# Altium footprint library PcbLib1.PcbLib: 3 footprints
Each footprint in its own frame and in the unit in brackets; x right, y up, seen from the top. Pads: shape width x height; smd on the part's side, far side on the other; paste and mask are expansions set on the pad; w line width, h text height; cw(c..) or ccw(c..) is an arc to the next point about the centre after c.
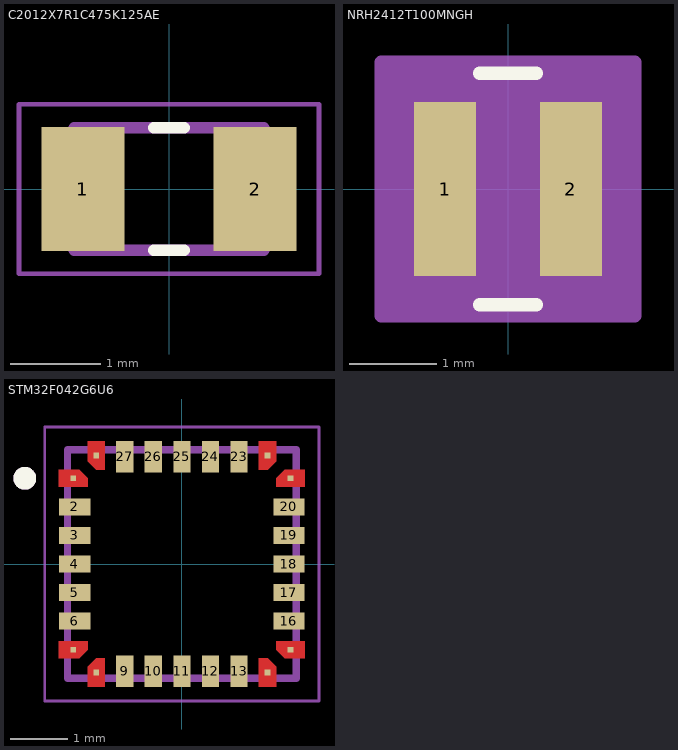
[diagram p0: the footprints below, top view; thin cyan lines are the x and y axes]

## C2012X7R1C475K125AE [mm]
pads (2):
  rect 0.92x1.38 smd: 1(-0.955,0) 2(0.955,0)
Top Overlay:
  lines w0.127: -0.17,-0.68 0.17,-0.68 ; -0.17,0.68 0.17,0.68
Mechanical 13:
  lines w0.127: -1.05,-0.68 -1.05,0.68 1.05,0.68 1.05,-0.68 -1.05,-0.68
Mechanical 15:
  lines w0.05: -1.665,-0.94 -1.665,0.94 1.665,0.94 1.665,-0.94 -1.665,-0.94

## NRH2412T100MNGH [mil]
pads (2):
  rect 28x79 smd paste+0 mask+0: 1(-28.54,0) 2(28.54,0)
Top Overlay:
  lines w6: -12.93,-52.5 12.93,-52.5 ; -12.93,52.5 12.93,52.5
Mechanical 13:
  lines w1: -47.5,-23.75 -47.5,23.75 -23.75,47.5 23.75,47.5 47.5,23.75 47.5,-23.75 23.75,-47.5 -23.75,-47.5 -47.5,-23.75
  text "*" at -40,-50 h50
Mechanical 15:
  region: 57.5,-57.5 -57.5,-57.5 -57.5,57.5 57.5,57.5
  lines w6: -57.5,-57.5 -57.5,57.5 57.5,57.5 57.5,-57.5 -57.5,-57.5
3D body "NRH2412T100MNGH--3DModel-STEP-418109.STEP": height 47.24, standoff 0, extent -47.24,-45.24 47.24,49.24

## STM32F042G6U6 [mm]
pads (28):
  rect 0.1x0.1 smd paste-1 mask+0: 1(-1.9,1.5) 7(-1.9,-1.5) 8(-1.5,-1.9) 14(1.5,-1.9) 15(1.9,-1.5) 21(1.9,1.5) 22(1.5,1.9) 28(-1.5,1.9)
  rect 0.55x0.3 smd: 2(-1.875,1) 3(-1.875,0.5) 4(-1.875,0) 5(-1.875,-0.5) 6(-1.875,-1) 16(1.875,-1) 17(1.875,-0.5) 18(1.875,0) 19(1.875,0.5) 20(1.875,1)
  rect 0.3x0.55 smd: 9(-1,-1.875) 10(-0.5,-1.875) 11(0,-1.875) 12(0.5,-1.875) 13(1,-1.875) 23(1,1.875) 24(0.5,1.875) 25(0,1.875) 26(-0.5,1.875) 27(-1,1.875)
Top Layer:
  region: -1.35,1.65 -1.5,1.65 -1.65,1.8 -1.65,2.15 -1.35,2.15
  region: 1.65,1.8 1.5,1.65 1.35,1.65 1.35,2.15 1.65,2.15
  region: 2.15,1.35 1.65,1.35 1.65,1.5 1.8,1.65 2.15,1.65
  region: 2.15,-1.65 1.8,-1.65 1.65,-1.5 1.65,-1.35 2.15,-1.35
  region: 1.65,-1.8 1.65,-2.15 1.35,-2.15 1.35,-1.65 1.5,-1.65
  region: -1.35,-2.15 -1.65,-2.15 -1.65,-1.8 -1.5,-1.65 -1.35,-1.65
  region: -1.65,-1.5 -1.8,-1.65 -2.15,-1.65 -2.15,-1.35 -1.65,-1.35
  region: -1.65,1.5 -1.65,1.35 -2.15,1.35 -2.15,1.65 -1.8,1.65
Top Overlay:
  circle w0.2: c-2.75,1.5 r0.1
Top Paste:
  region: -1.35,1.65 -1.5,1.65 -1.65,1.8 -1.65,2.15 -1.35,2.15
  region: 1.65,1.8 1.5,1.65 1.35,1.65 1.35,2.15 1.65,2.15
  region: 2.15,1.35 1.65,1.35 1.65,1.5 1.8,1.65 2.15,1.65
  region: 2.15,-1.65 1.8,-1.65 1.65,-1.5 1.65,-1.35 2.15,-1.35
  region: 1.65,-1.8 1.65,-2.15 1.35,-2.15 1.35,-1.65 1.5,-1.65
  region: -1.35,-2.15 -1.65,-2.15 -1.65,-1.8 -1.5,-1.65 -1.35,-1.65
  region: -1.65,-1.5 -1.8,-1.65 -2.15,-1.65 -2.15,-1.35 -1.65,-1.35
  region: -1.65,1.5 -1.65,1.35 -2.15,1.35 -2.15,1.65 -1.8,1.65
Top Solder:
  region: -1.25,1.55 -1.5,1.55 -1.75,1.8 -1.75,2.25 -1.25,2.25
  region: 1.75,1.8 1.5,1.55 1.25,1.55 1.25,2.25 1.75,2.25
  region: 2.25,1.25 1.55,1.25 1.55,1.5 1.8,1.75 2.25,1.75
  region: 2.25,-1.75 1.8,-1.75 1.55,-1.5 1.55,-1.25 2.25,-1.25
  region: 1.75,-1.8 1.75,-2.25 1.25,-2.25 1.25,-1.55 1.5,-1.55
  region: -1.25,-2.25 -1.75,-2.25 -1.75,-1.8 -1.5,-1.55 -1.25,-1.55
  region: -1.55,-1.5 -1.8,-1.75 -2.25,-1.75 -2.25,-1.25 -1.55,-1.25
  region: -1.55,1.5 -1.55,1.25 -2.25,1.25 -2.25,1.75 -1.8,1.75
Mechanical 13:
  circle w0.2: c-2.75,1.5 r0.1
  lines w0.127: -2,-2 -2,2 2,2 2,-2 -2,-2
Mechanical 15:
  lines w0.05: -2.4,-2.4 -2.4,2.4 2.4,2.4 2.4,-2.4 -2.4,-2.4
3D body "STM32F042G6U6.STEP": height 0.6, standoff 0, extent -2,-2 2,2